# Altium footprint library WCAP-PHLE.PcbLib: 1 footprints
Each footprint in its own frame and in the unit in brackets; x right, y up, seen from the top. Pads: shape width x height; smd on the part's side, far side on the other; paste and mask are expansions set on the pad; w line width, h text height; cw(c..) or ccw(c..) is an arc to the next point about the centre after c.
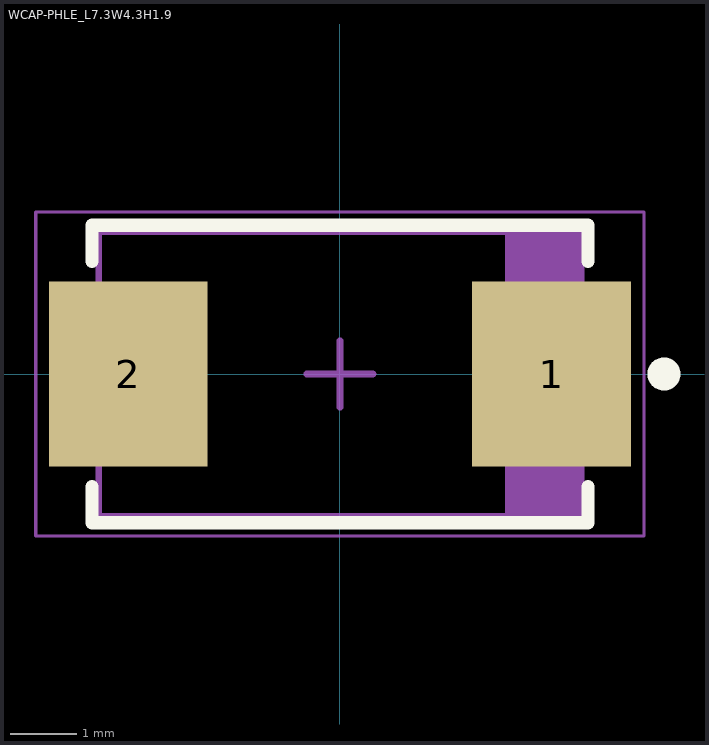
[diagram p0: the footprint, top view; thin cyan lines are the x and y axes]

## WCAP-PHLE_L7.3W4.3H1.9 [mm] "Aluminum Polymer Capacitors, body 7.3x4.3mm"
height 1.9
pads (2):
  rect 2.4x2.8 smd: 1(3.2,0) 2(-3.2,0)
Top Overlay:
  circle w0.25: c4.9,0 r0.125
  lines w0.2: -3.75,-1.7 -3.75,-2.25 3.75,-2.25 3.75,-1.7 ; -3.75,1.7 -3.75,2.25 3.75,2.25 3.75,1.7
Top Assembly:
  rectangle: 2.5,-2.15 3.65,2.15
  lines w0.1: -3.65,-2.15 -3.65,2.15 3.65,2.15 3.65,-2.15 -3.65,-2.15
Top Designator:
  text ".Designator" at -3.647,-0.357 h1
Top 3D Body:
  rectangle: 2.5,-2.15 3.65,2.15
  lines w0.1: -3.65,-2.15 -3.65,2.15 3.65,2.15 3.65,-2.15 -3.65,-2.15
Top Courtyard:
  lines w0.05: -4.6,-2.45 4.6,-2.45 4.6,2.45 -4.6,2.45 -4.6,-2.45
Top Component Center:
  lines w0.1: -0.5,0 0.5,0 ; 0,-0.5 0,0.5
3D body "WCAP-PHGP_7,3x4,3x1,9.stp": height 1.9, standoff 0, extent -3.65,-2.15 3.65,2.15